# Altium schematic symbol library TEMD_lib.SchLib: 7 symbols
Pins are listed as number, name and electrical type; pins without a type are passive.

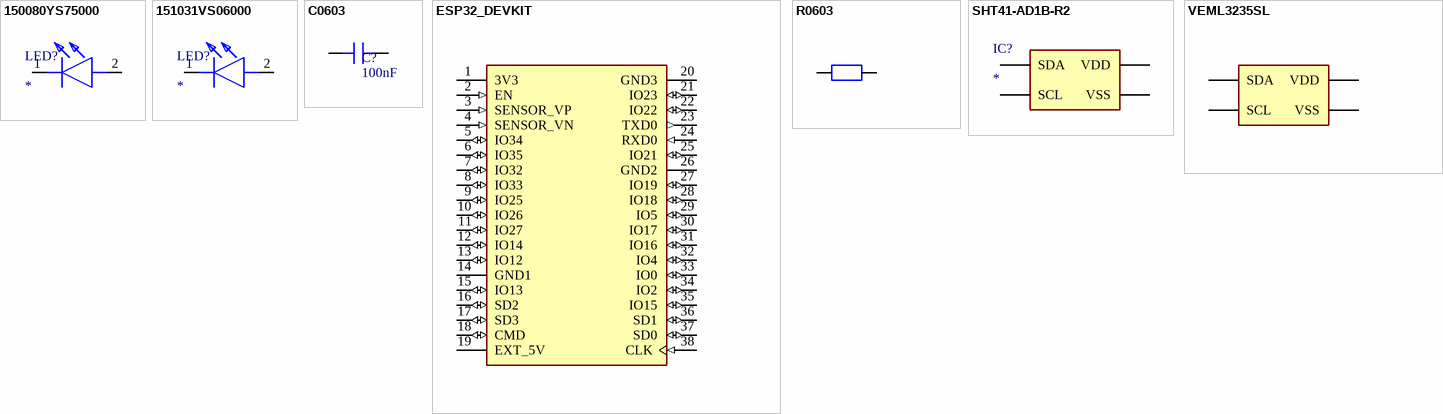
[diagram p0: symbols 150080YS75000 to VEML3235SL]

## 150080YS75000
designator LED?
LED; Manufacturer_Name: Wurth Elektronik; Manufacturer_Part_Number: 150080YS75000; Datasheet Link: https://componentsearchengine.com//150080YS75000.pdf; Height: 0.8mm; Mouser2 Part Number: 710-150080YS75000; Mouser2 Price/Stock: https://www.mouser.com/Search/Refine.aspx?Keyword=710-150080YS75000
footprint LEDC2012X80N
pins: 1 K, 2 A

## 151031VS06000
designator LED?
LED; Manufacturer_Name: Wurth Elektronik; Manufacturer_Part_Number: 151031VS06000; Description: LED,Wurth Elektronik,151031VS06000; Datasheet Link: https://componentsearchengine.com//151031VS06000.pdf; Mouser2 Part Number: 710-151031VS06000; Mouser2 Price/Stock: https://www.mouser.com/Search/Refine.aspx?Keyword=710-151031VS06000
footprint 151034GS03000
pins: 1 K, 2 A

## C0603
designator C?, comment 100nF
Capacitor; value: 100nF
footprint C0603
pins: 1, 2

## ESP32_DEVKIT
designator U?, comment ESP32-DevKit
ESP32-DevKitC-32UE
footprint MODULE_ESP32-DEVKIT
pins: 1 3V3 (power), 2 EN (in), 3 SENSOR_VP (in), 4 SENSOR_VN (in), 5 IO34 (io), 6 IO35 (io), 7 IO32 (io), 8 IO33 (io), 9 IO25 (io), 10 IO26 (io), 11 IO27 (io), 12 IO14 (io), 13 IO12 (io), 14 GND1 (power), 15 IO13 (io), 16 SD2 (io), 17 SD3 (io), 18 CMD (io), 19 EXT_5V (power), 20 GND3 (power), 21 IO23 (io), 22 IO22 (io), 23 TXD0 (out), 24 RXD0 (in), 25 IO21 (io), 26 GND2 (power), 27 IO19 (io), 28 IO18 (io), 29 IO5 (io), 30 IO17 (io), 31 IO16 (io), 32 IO4 (io), 33 IO0 (io), 34 IO2 (io), 35 IO15 (io), 36 SD1 (io), 37 SD0 (io), 38 CLK (in)

## R0603
designator R?, comment 1k
Resistor; value: 1k
footprint R0603
pins: 1, 2

## SHT41-AD1B-R2
designator IC?
Integrated Circuit; Manufacturer_Name: Sensirion; Manufacturer_Part_Number: SHT41-AD1B-R2; Datasheet Link: https://sensirion.com/media/documents/33FD6951/61641E1E/Sensirion_Humidity_Sensors_SHT4x_Datasheet.pdf; Height: 0.59mm
footprint SHT41AD1BR2
pins: 1 SDA, 2 SCL, 3 VDD, 4 VSS

## VEML3235SL
designator IC?
Integrated Circuit
footprint VEML3235SL
pins: 1 VDD, 2 VSS, 3 SDA, 4 SCL